# Altium schematic symbol library AD_AD2S1210.SchLib: 1 symbol
Pins are listed as number, name and electrical type; pins without a type are passive.

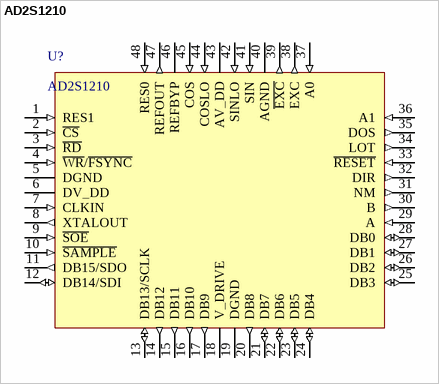
[diagram p0: symbol AD2S1210]

## AD2S1210
designator U?
Variable Resolution, 10-Bit to 16-Bit R/D Converter with Reference Oscillator; MPN: AD2S1210WDSTZRL7; MF: Analog Devices; Package: LQFP-48; Value: AD2S1210; Created: 2019_04_20_AGeiger; ComponentLink1Description: Datasheet; ComponentLink1URL: https://www.analog.com/media/en/technical-documentation/data-sheets/AD2S1210.pdf; Supplier 1: Mouser; Supplier Part Number 1: 584-AD2S1210WDSTZR7; Supplier Part Number 2: AD2S1210WDSTZRL7CT-ND; Supplier 2: Digi-Key
footprint LQFP-48_L (QFP, 48-Leads, Body 7x7mm, Pitch 0.5mm, IPC High Density)
footprint LQFP-48_M (QFP, 48-Leads, Body 7x7mm, Pitch 0.5mm, IPC Low Density)
footprint LQFP-48_N (QFP, 48-Leads, Body 7x7mm, Pitch 0.5mm, IPC Medium Density)
pins: 1 RES1 (in), 2 ~{CS} (in), 3 ~{RD} (in), 4 ~{WR}/~{FSYNC} (in), 5 DGND (power), 6 DV_DD (power), 7 CLKIN (in), 8 XTALOUT (out), 9 ~{SOE} (in), 10 ~{SAMPLE} (in), 11 DB15/SDO (out), 12 DB14/SDI (io), 13 DB13/SCLK (io), 14 DB12 (out), 15 DB11 (out), 16 DB10 (out), 17 DB9 (out), 18 V_DRIVE (power), 19 DGND (power), 20 DB8 (out), 21 DB7 (io), 22 DB6 (io), 23 DB5 (io), 24 DB4 (io), 25 DB3 (io), 26 DB2 (io), 27 DB1 (io), 28 DB0 (io), 29 A (in), 30 B (out), 31 NM (out), 32 DIR (out), 33 ~{RESET} (in), 34 LOT (out), 35 DOS (out), 36 A1 (in), 37 A0 (in), 38 EXC (out), 39 ~{EXC} (out), 40 AGND (power), 41 SIN (in), 42 SINLO (in), 43 AV_DD (power), 44 COSLO (in), 45 COS (in), 46 REFBYP, 47 REFOUT (out), 48 RES0 (in)